# Altium integrated library HMC849ALP4CE.IntLib: 1 symbol
Pins are listed as number, name and electrical type; pins without a type are passive.

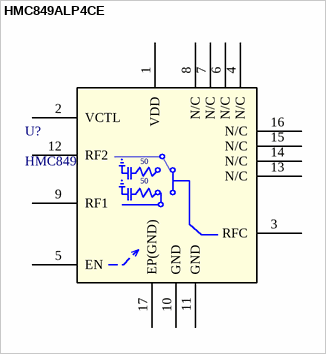
[diagram p0: symbol HMC849ALP4CE]

## HMC849ALP4CE
designator U?, comment HMC849
Imported; Manufacturer_Part_Number: HMC849ALP4CE; Vendor: Analog Devices Inc; Built_By: Analog Devices Imc.; RefDes: RefDes; Type: DEV; Value: Value
footprint CP_16_40
pins: 1 VDD, 2 VCTL, 3 RFC, 4 N/C, 5 EN, 6 N/C, 7 N/C, 8 N/C, 9 RF1, 10 GND, 11 GND, 12 RF2, 13 N/C, 14 N/C, 15 N/C, 16 N/C, 17 EP(GND)
text: 50